# Altium integrated library ARDUINO_NANO.IntLib: 1 symbol
Pins are listed as number, name and electrical type; pins without a type are passive.

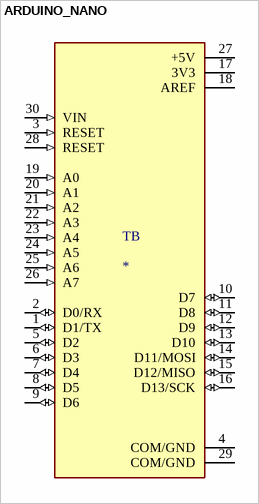
[diagram p0: symbol ARDUINO_NANO]

## ARDUINO_NANO
designator TB
ATSAMD21G18A Arduino Nano 33 IoT SAM D ARMÂ® CortexÂ®-M0+ MCU 32-Bit Embedded Evaluation Board; MP: ARDUINO NANO; Package: None; Price: None; Availability: Unavailable; Value: *; MF: Arduino; SnapEDA_Link: https://www.snapeda.com/parts/ARDUINO%20NANO/Arduino/view-part/1128261/?ref=snap
footprint SHIELD_ARDUINO_NANO
pins: 1 D1/TX (io), 2 D0/RX (io), 3 RESET (in), 4 COM/GND (power), 5 D2 (io), 6 D3 (io), 7 D4 (io), 8 D5 (io), 9 D6 (io), 10 D7 (io), 11 D8 (io), 12 D9 (io), 13 D10 (io), 14 D11/MOSI (io), 15 D12/MISO (io), 16 D13/SCK (io), 17 3V3 (power), 18 AREF (power), 19 A0 (in), 20 A1 (in), 21 A2 (in), 22 A3 (in), 23 A4 (in), 24 A5 (in), 25 A6 (in), 26 A7 (in), 27 +5V (power), 28 RESET (in), 29 COM/GND (power), 30 VIN (in)